# EAGLE library part PSOC5LP_100TQFP (library PSoC_5LP)
100-TQFP package for PSoC 5LP microcontrollers.
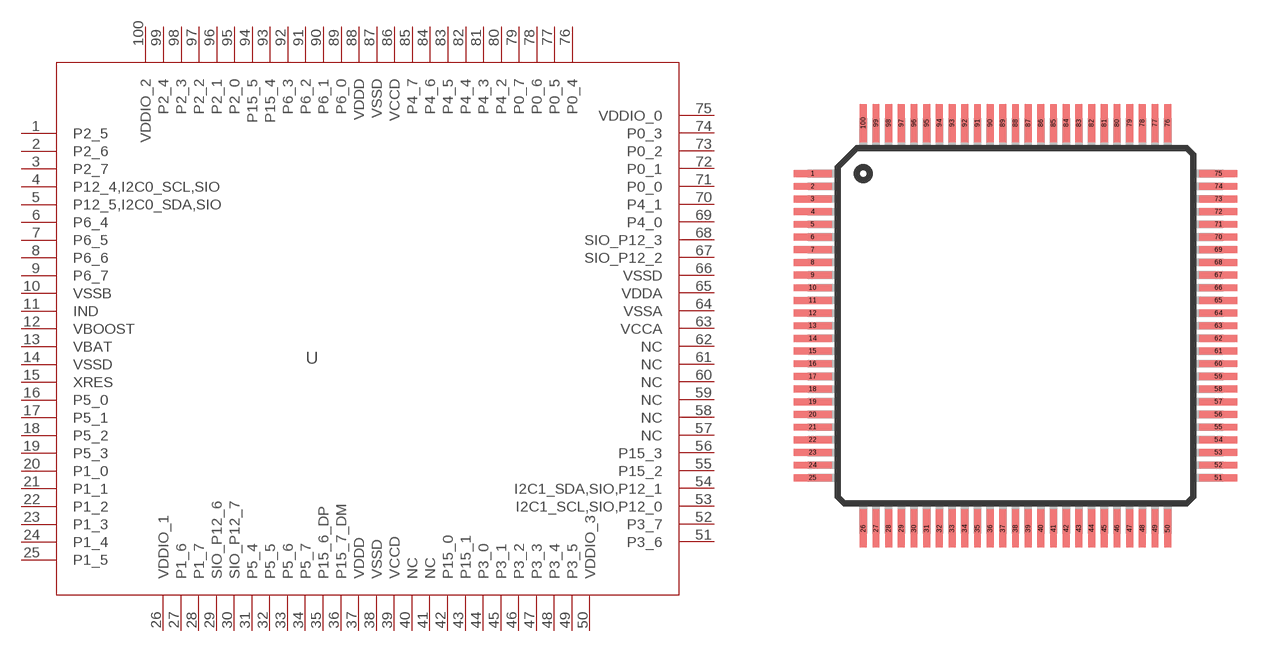
[diagram p0: symbol with the pads of TQFP-100-14X14MM; footprint TQFP-100-14X14MM]

Designator prefix -

## PSOC5LP_100TQFP  [TQFP-100-14X14MM]
1  P2_5
2  P2_6
3  P2_7
4  P12_4,I2C0_SCL,SIO
5  P12_5,I2C0_SDA,SIO
6  P6_4
7  P6_5
8  P6_6
9  P6_7
10  VSSB
11  IND
12  VBOOST
13  VBAT
14  VSSD
15  XRES
16  P5_0
17  P5_1
18  P5_2
19  P5_3
20  P1_0
21  P1_1
22  P1_2
23  P1_3
24  P1_4
25  P1_5
26  VDDIO_1
27  P1_6
28  P1_7
29  SIO_P12_6
30  SIO_P12_7
31  P5_4
32  P5_5
33  P5_6
34  P5_7
35  P15_6_DP
36  P15_7_DM
37  VDDD
38  VSSD
39  VCCD
40  NC
41  NC
42  P15_0
43  P15_1
44  P3_0
45  P3_1
46  P3_2
47  P3_3
48  P3_4
49  P3_5
50  VDDIO_3
51  P3_6
52  P3_7
53  I2C1_SCL,SIO,P12_0
54  I2C1_SDA,SIO,P12_1
55  P15_2
56  P15_3
57  NC
58  NC
59  NC
60  NC
61  NC
62  NC
63  VCCA
64  VSSA
65  VDDA
66  VSSD
67  SIO_P12_2
68  SIO_P12_3
69  P4_0
70  P4_1
71  P0_0
72  P0_1
73  P0_2
74  P0_3
75  VDDIO_0
76  P0_4
77  P0_5
78  P0_6
79  P0_7
80  P4_2
81  P4_3
82  P4_4
83  P4_5
84  P4_6
85  P4_7
86  VCCD
87  VSSD
88  VDDD
89  P6_0
90  P6_1
91  P6_2
92  P6_3
93  P15_4
94  P15_5
95  P2_0
96  P2_1
97  P2_2
98  P2_3
99  P2_4
100  VDDIO_2

## Footprint TQFP-100-14X14MM (pad centres in mm)
smd 1.5 x 0.27: 1 -8,6; 2 -8,5.5; 3 -8,5; 4 -8,4.5; 5 -8,4; 6 -8,3.5; 7 -8,3; 8 -8,2.5; 9 -8,2; 10 -8,1.5; 11 -8,1; 12 -8,0.5; 13 -8,0; 14 -8,-0.5; 15 -8,-1; 16 -8,-1.5; 17 -8,-2; 18 -8,-2.5; 19 -8,-3; 20 -8,-3.5; 21 -8,-4; 22 -8,-4.5; 23 -8,-5; 24 -8,-5.5; 25 -8,-6; 51 8,-6; 52 8,-5.5; 53 8,-5; 54 8,-4.5; 55 8,-4; 56 8,-3.5; 57 8,-3; 58 8,-2.5; 59 8,-2; 60 8,-1.5; 61 8,-1; 62 8,-0.5; 63 8,0; 64 8,0.5; 65 8,1; 66 8,1.5; 67 8,2; 68 8,2.5; 69 8,3; 70 8,3.5; 71 8,4; 72 8,4.5; 73 8,5; 74 8,5.5; 75 8,6
smd 0.27 x 1.5: 26 -6,-8; 27 -5.5,-8; 28 -5,-8; 29 -4.5,-8; 30 -4,-8; 31 -3.5,-8; 32 -3,-8; 33 -2.5,-8; 34 -2,-8; 35 -1.5,-8; 36 -1,-8; 37 -0.5,-8; 38 0,-8; 39 0.5,-8; 40 1,-8; 41 1.5,-8; 42 2,-8; 43 2.5,-8; 44 3,-8; 45 3.5,-8; 46 4,-8; 47 4.5,-8; 48 5,-8; 49 5.5,-8; 50 6,-8; 76 6,8; 77 5.5,8; 78 5,8; 79 4.5,8; 80 4,8; 81 3.5,8; 82 3,8; 83 2.5,8; 84 2,8; 85 1.5,8; 86 1,8; 87 0.5,8; 88 0,8; 89 -0.5,8; 90 -1,8; 91 -1.5,8; 92 -2,8; 93 -2.5,8; 94 -3,8; 95 -3.5,8; 96 -4,8; 97 -4.5,8; 98 -5,8; 99 -5.5,8; 100 -6,8